# EAGLE library part TRAN_EE16 (library ie13)
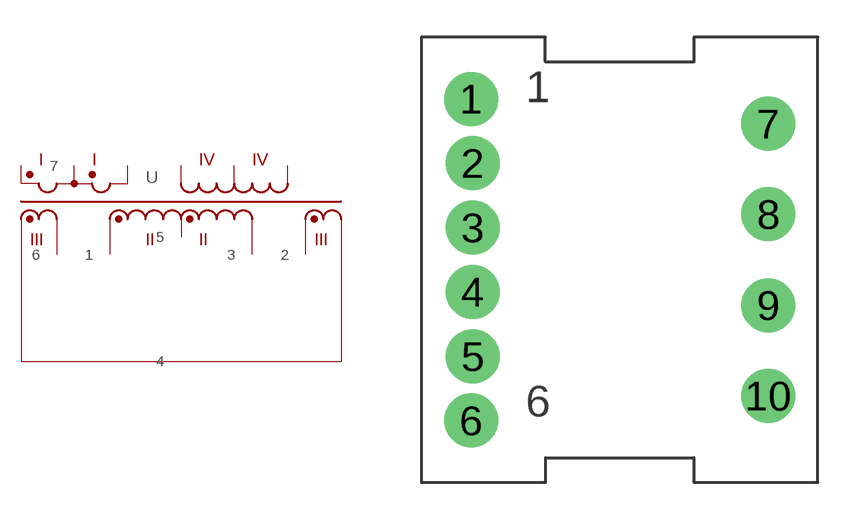
[diagram p1: symbol with the pads of EE16; footprint EE16]

Designator prefix -

## TRAN_EE16  [EE16]
1  1
2  2
3  3
4  4
5  5
6  6
7  7

## Footprint EE16 (pad centres in mm)
drill 0.8 pad 2.184: 1 -6,6.5; 2 -5.94,3.9; 3 -5.94,1.3; 4 -5.94,-1.3; 5 -5.94,-3.9; 6 -6,-6.5; 7 6,5.5; 8 6,1.84; 9 6,-1.84; 10 6,-5.5